# Altium schematic symbol library 691210910003.SchLib: 1 symbol
Pins are listed as number, name and electrical type; pins without a type are passive.

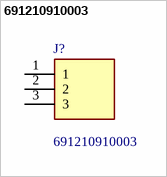
[diagram p0: symbol 691210910003]

## 691210910003
designator J?
WR-TBL Terminal block - Rising Cage - THT Serie 2109 - 2,54mm pitch - Monoblock THT - Green - Horizontal cable entry Rising Cage Clamp 8.5mm height - 03p; Manufacturer_Name: Wurth Elektronik; Geometry.Height: 8.8mm; Mouser Part Number: 710-691210910003; Mouser Price/Stock: https://www.mouser.co.uk/ProductDetail/Wurth-Elektronik/691210910003?qs=sPbYRqrBIVnYm0xWWpvD1g%3D%3D; Manufacturer_Part_Number: 691210910003; Datasheet Link: https://www.we-online.com/components/products/datasheet/691210910003.pdf
footprint 691210910003
pins: 1, 2, 3